# EAGLE library part OKL-T/3-W5 (library custom-devices)
0.6-3.6V, 3A DC/DC Converter - Negative Input Logic
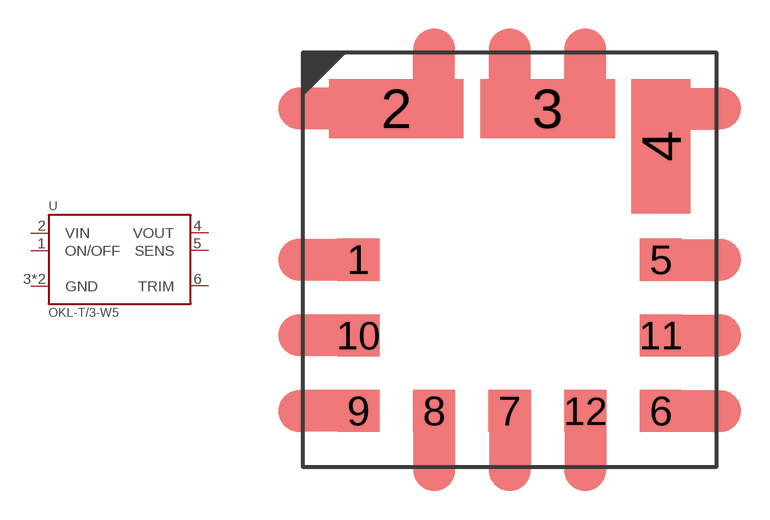
[diagram p22: symbol with the pads of OKAMI_12SMD; footprint OKAMI_12SMD]

Designator prefix U

## OKL-T/3-W5 (DIGI-KEY: 811-2212-1-ND)  [OKAMI_12SMD]
1  ON/OFF
2  VIN
3  GND
4  VOUT
5  SENS
6  TRIM
7  GND

## Footprint OKAMI_12SMD (pad centres in mm)
smd 1.27 x 1.27: 1 -4.572,0; 5 4.572,0; 6 4.572,-4.572; 7 0,-4.572; 8 -2.286,-4.572; 9 -4.572,-4.572; 10 -4.572,-2.286; 11 4.572,-2.286; 12 2.286,-4.572
smd 4.06 x 1.78: 2 -3.429,4.572; 3 1.143,4.572
smd 1.78 x 4.06: 4 4.572,3.429